# EAGLE library part TPS60130 (library machine_science)
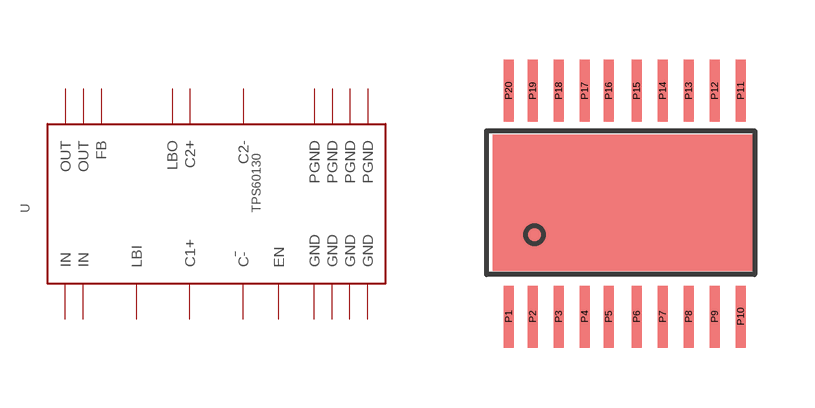
[diagram p31: symbol with the pads of 20-HTSSOP; footprint 20-HTSSOP]

Designator prefix -

## TPS60130  [20-HTSSOP]
P1  GND
P2  GND
P3  EN
P4  FB
P5  OUT
P6  C1+
P7  IN
P8  C!-
P9  PGND
P10  PGND
P11  PGND
P12  PGND
P13  C2-
P14  IN
P15  C2+
P16  OUT
P17  LBO
P18  LBI
P19  GND
P20  GND

## Footprint 20-HTSSOP (pad centres in mm)
20-HTSSOP Power PAD
smd 0.25 x 1.55: P1 -2.85,-2.85; P2 -2.25,-2.85; P3 -1.6,-2.85; P4 -0.95,-2.85; P5 -0.35,-2.85; P6 0.35,-2.85; P7 1,-2.85; P8 1.65,-2.85; P9 2.3,-2.85; P10 2.95,-2.85; P11 2.95,2.8; P12 2.3,2.8; P13 1.65,2.8; P14 1,2.8; P15 0.35,2.8; P16 -0.35,2.8; P17 -0.95,2.8; P18 -1.6,2.8; P19 -2.25,2.8; P20 -2.85,2.8